# Altium integrated library TI Data Converters Analog to Digital Converter.IntLib: 2198 symbols (part 39 of 164)
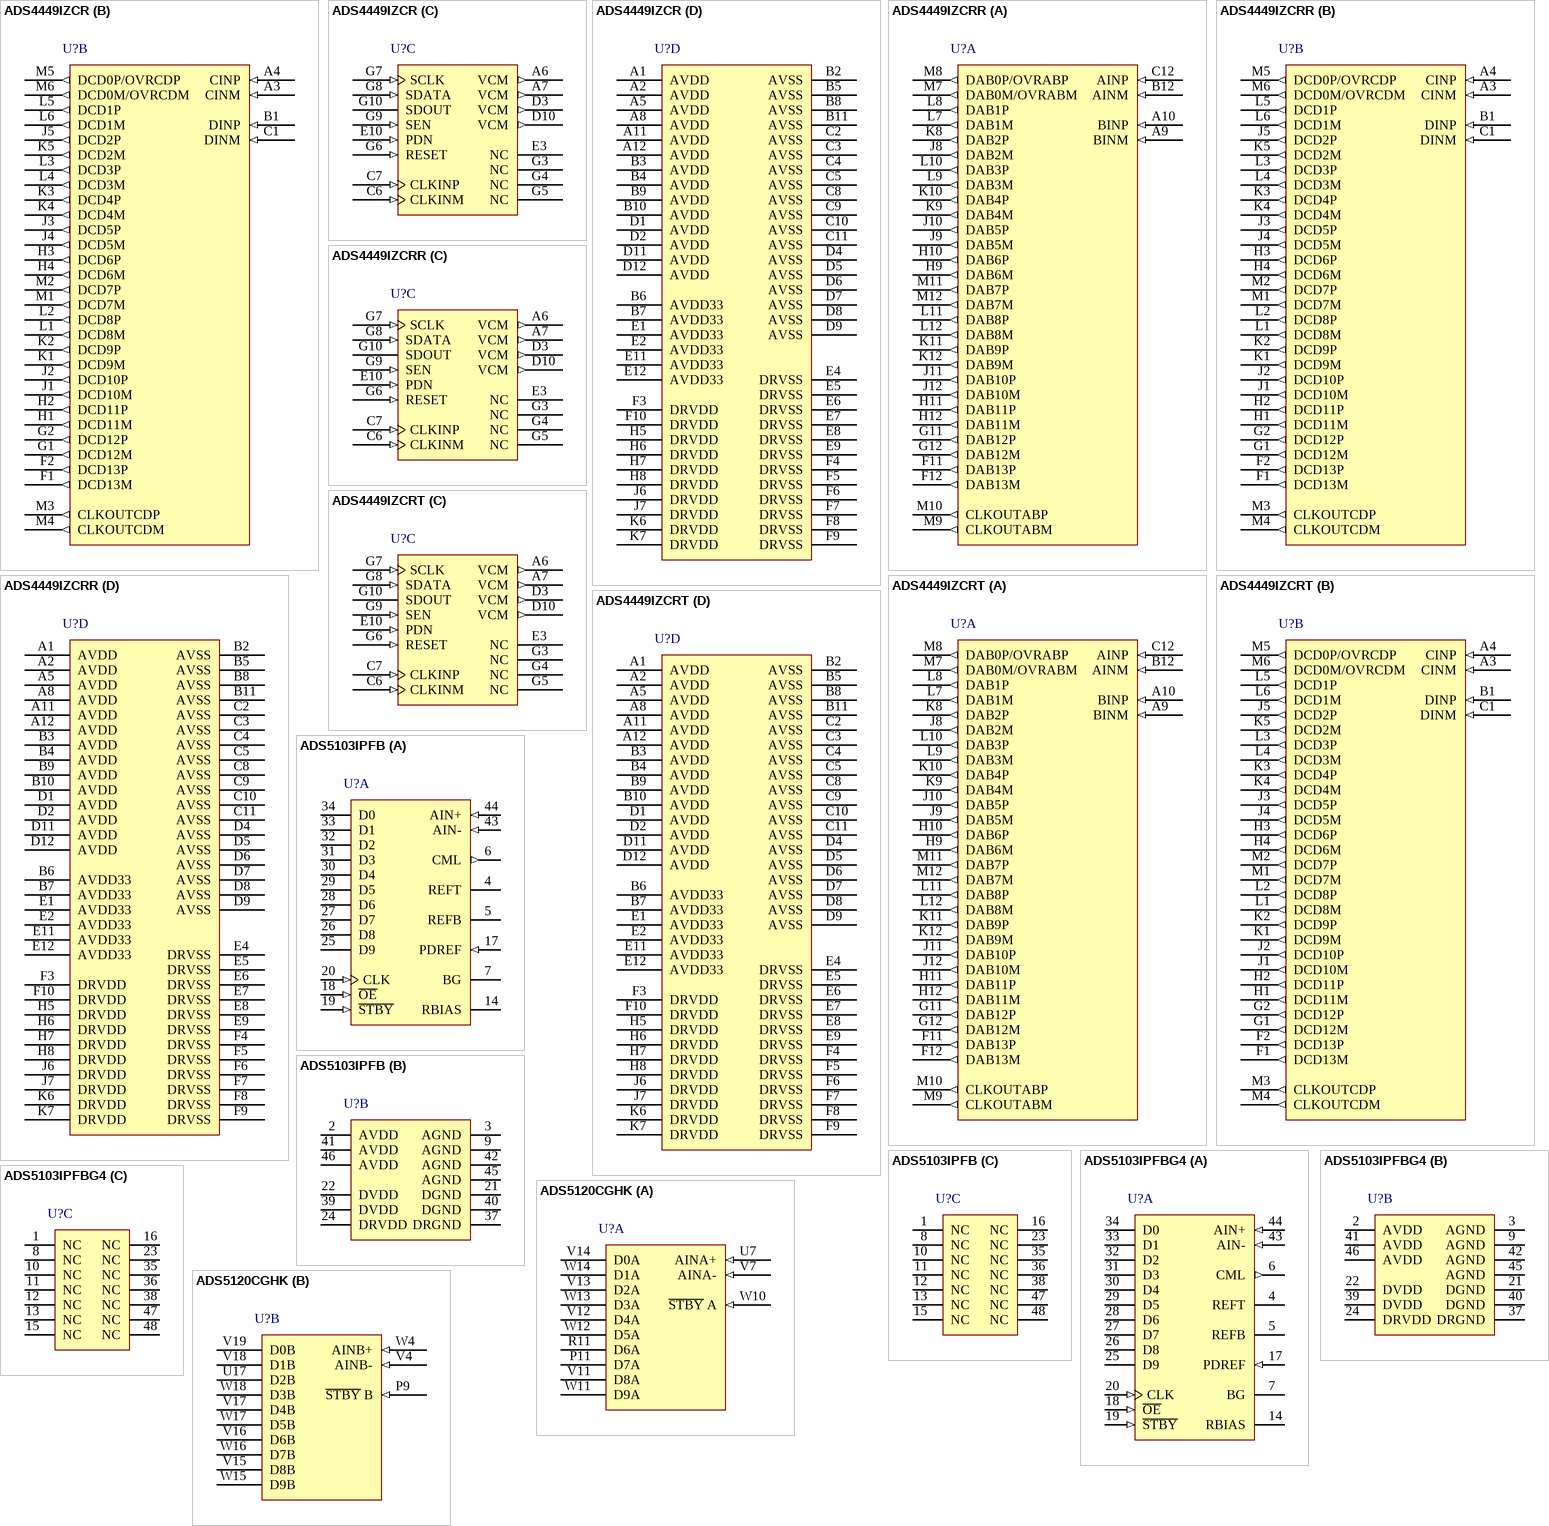
[diagram p164: symbols ADS4449IZCR to ADS5120CGHK]

## ADS4449IZCRR
designator U?
Quad-Channel, 14-Bit, 250-MSPS Low-Power ADC, -40 to 85 degC, 144-pin BGA (ZCR), Green (RoHS & no Sb/Br); Manufacturer: Texas Instruments; PartNumber: ADS4449IZCRR; # Input Channels: 4; Analog Voltage AV/DD(Max)(V): 3.45; Analog Voltage AV/DD(Min)(V): 3.15; Architecture: Pipeline; Digital Supply(Max)(V): 2; Digital Supply(Min)(V): 1.7; INL(Max)(+/-LSB): 5.25; Interface: DDR LVDS; Resolution(Bits): 14; Sample Rate(max)(SPS): 250M; SFDR(dB): 84; SINAD(dB): 70.9; SNR(dB): 71.1; SubFamily: High Speed ADC (>10MSPS); DatasheetVersion: SBAS603; PackageVersion: 4210272-3/C, 11/2011; PackageReference: ZCR144; PackageDescription: 144-Pin Plastic Ball Grid Array, Body 10 x 10 mm, Pitch 0.8 mm; Supplier 1: Digi-Key; Supplier Part Number 1: ADS8380IRHPTG4-ND; Mounting Technology: Surface Mount; Code_JEDEC: MO-219F; ComponentLink1Description: Manufacturer URL; ComponentLink1URL: http://www.ti.com/; ComponentLink2Description: Datasheet; ComponentLink2URL: http://www.ti.com/lit/ds/symlink/ads4449.pdf; ComponentLink3Description: Package Specification; ComponentLink3URL: http://www.ti.com/litv/pdf/mpbga77
footprint TI-ZCR144 (BGA, 144-Balls, Body 10x10mm, Pitch 0.8mm)
part A pins: A9 BINM (in) "Negative differential analog input for channel B", A10 BINP (in) "Positive differential analog input for channel B", B12 AINM (in) "Negative differential analog input for channel A", C12 AINP (in) "Positive differential analog input for channel A", F11 DAB13P (out) "DDR LVDS outputs for channels A and B.", F12 DAB13M (out) "DDR LVDS outputs for channels A and B.", G11 DAB12P (out) "DDR LVDS outputs for channels A and B.", G12 DAB12M (out) "DDR LVDS outputs for channels A and B.", H9 DAB6M (out) "DDR LVDS outputs for channels A and B.", H10 DAB6P (out) "DDR LVDS outputs for channels A and B.", H11 DAB11P (out) "DDR LVDS outputs for channels A and B.", H12 DAB11M (out) "DDR LVDS outputs for channels A and B.", J8 DAB2M (out) "DDR LVDS outputs for channels A and B.", J9 DAB5M (out) "DDR LVDS outputs for channels A and B.", J10 DAB5P (out) "DDR LVDS outputs for channels A and B.", J11 DAB10P (out) "DDR LVDS outputs for channels A and B.", J12 DAB10M (out) "DDR LVDS outputs for channels A and B.", K8 DAB2P (out) "DDR LVDS outputs for channels A and B.", K9 DAB4M (out) "DDR LVDS outputs for channels A and B.", K10 DAB4P (out) "DDR LVDS outputs for channels A and B.", K11 DAB9P (out) "DDR LVDS outputs for channels A and B.", K12 DAB9M (out) "DDR LVDS outputs for channels A and B.", L7 DAB1M (out) "DDR LVDS outputs for channels A and B.", L8 DAB1P (out) "DDR LVDS outputs for channels A and B.", L9 DAB3M (out) "DDR LVDS outputs for channels A and B.", L10 DAB3P (out) "DDR LVDS outputs for channels A and B.", L11 DAB8P (out) "DDR LVDS outputs for channels A and B.", L12 DAB8M (out) "DDR LVDS outputs for channels A and B.", M7 DAB0M/OVRABM (out) "DDR LVDS outputs for channels A and B.", M8 DAB0P/OVRABP (out) "DDR LVDS outputs for channels A and B.", M9 CLKOUTABM (out) "Negative differential LVDS clock output for channel A and B", M10 CLKOUTABP (out) "Positive differential LVDS clock output for channel A and B", M11 DAB7P (out) "DDR LVDS outputs for channels A and B.", M12 DAB7M (out) "DDR LVDS outputs for channels A and B."
part B pins: A3 CINM (in) "Negative differential analog input for channel C", A4 CINP (in) "Positive differential analog input for channel C", B1 DINP (in) "Positive differential analog input for channel D", C1 DINM (in) "Negative differential analog input for channel D", F1 DCD13M (out) "DDR LVDS outputs for channels C and D.", F2 DCD13P (out) "DDR LVDS outputs for channels C and D.", G1 DCD12M (out) "DDR LVDS outputs for channels C and D.", G2 DCD12P (out) "DDR LVDS outputs for channels C and D.", H1 DCD11M (out) "DDR LVDS outputs for channels C and D.", H2 DCD11P (out) "DDR LVDS outputs for channels C and D.", H3 DCD6P (out) "DDR LVDS outputs for channels C and D.", H4 DCD6M (out) "DDR LVDS outputs for channels C and D.", J1 DCD10M (out) "DDR LVDS outputs for channels C and D.", J2 DCD10P (out) "DDR LVDS outputs for channels C and D.", J3 DCD5P (out) "DDR LVDS outputs for channels C and D.", J4 DCD5M (out) "DDR LVDS outputs for channels C and D.", J5 DCD2P (out) "DDR LVDS outputs for channels C and D.", K1 DCD9M (out) "DDR LVDS outputs for channels C and D.", K2 DCD9P (out) "DDR LVDS outputs for channels C and D.", K3 DCD4P (out) "DDR LVDS outputs for channels C and D.", K4 DCD4M (out) "DDR LVDS outputs for channels C and D.", K5 DCD2M (out) "DDR LVDS outputs for channels C and D.", L1 DCD8M (out) "DDR LVDS outputs for channels C and D.", L2 DCD8P (out) "DDR LVDS outputs for channels C and D.", L3 DCD3P (out) "DDR LVDS outputs for channels C and D.", L4 DCD3M (out) "DDR LVDS outputs for channels C and D.", L5 DCD1P (out) "DDR LVDS outputs for channels C and D.", L6 DCD1M (out) "DDR LVDS outputs for channels C and D.", M1 DCD7M (out) "DDR LVDS outputs for channels C and D.", M2 DCD7P (out) "DDR LVDS outputs for channels C and D.", M3 CLKOUTCDP (out) "Positive differential LVDS clock output for channels C and D", M4 CLKOUTCDM (out) "Negative differential LVDS clock output for channels C and D", M5 DCD0P/OVRCDP (out) "DDR LVDS outputs for channels C and D.", M6 DCD0M/OVRCDM (out) "DDR LVDS outputs for channels C and D."
part C pins: A6 VCM (out) "Common-mode voltage for analog inputs. All VCM pins are internally connected together.", A7 VCM (out) "Common-mode voltage for analog inputs. All VCM pins are internally connected together.", C6 CLKINM (in) "Negative differential clock input", C7 CLKINP (in) "Positive differential clock input", D3 VCM (out) "Common-mode voltage for analog inputs. All VCM pins are internally connected together.", D10 VCM (out) "Common-mode voltage for analog inputs. All VCM pins are internally connected together.", E3 NC "Do not connect", E10 PDN (in) "Power-down control; active high. Logic high is power down.", G3 NC "Do not connect", G4 NC "Do not connect", G5 NC "Do not connect", G6 RESET (in) "Hardware reset; active high", G7 SCLK (in) "Serial interface clock input", G8 SDATA (in) "Serial interface data input", G9 SEN (in) "Serial interface enable", G10 SDOUT (hiz) "Serial interface data output"
part D pins: A1 AVDD (power) "Analog 1.9-V power supply", A2 AVDD (power) "Analog 1.9-V power supply", A5 AVDD (power) "Analog 1.9-V power supply", A8 AVDD (power) "Analog 1.9-V power supply", A11 AVDD (power) "Analog 1.9-V power supply", A12 AVDD (power) "Analog 1.9-V power supply", B2 AVSS (power) "Analog ground", B3 AVDD (power) "Analog 1.9-V power supply", B4 AVDD (power) "Analog 1.9-V power supply", B5 AVSS (power) "Analog ground", B6 AVDD33 (power) "Analog 3.3-V power supply", B7 AVDD33 (power) "Analog 3.3-V power supply", B8 AVSS (power) "Analog ground", B9 AVDD (power) "Analog 1.9-V power supply", B10 AVDD (power) "Analog 1.9-V power supply", B11 AVSS (power) "Analog ground", C2 AVSS (power) "Analog ground", C3 AVSS (power) "Analog ground", C4 AVSS (power) "Analog ground", C5 AVSS (power) "Analog ground", C8 AVSS (power) "Analog ground", C9 AVSS (power) "Analog ground", C10 AVSS (power) "Analog ground", C11 AVSS (power) "Analog ground", D1 AVDD (power) "Analog 1.9-V power supply", D2 AVDD (power) "Analog 1.9-V power supply", D4 AVSS (power) "Analog ground", D5 AVSS (power) "Analog ground", D6 AVSS (power) "Analog ground", D7 AVSS (power) "Analog ground", D8 AVSS (power) "Analog ground", D9 AVSS (power) "Analog ground", D11 AVDD (power) "Analog 1.9-V power supply", D12 AVDD (power) "Analog 1.9-V power supply", E1 AVDD33 (power) "Analog 3.3-V power supply", E2 AVDD33 (power) "Analog 3.3-V power supply", E4 DRVSS (power) "Digital ground", E5 DRVSS (power) "Digital ground", E6 DRVSS (power) "Digital ground", E7 DRVSS (power) "Digital ground", E8 DRVSS (power) "Digital ground", E9 DRVSS (power) "Digital ground", E11 AVDD33 (power) "Analog 3.3-V power supply", E12 AVDD33 (power) "Analog 3.3-V power supply", F3 DRVDD (power) "Digital 1.8-V power supply", F4 DRVSS (power) "Digital ground", F5 DRVSS (power) "Digital ground", F6 DRVSS (power) "Digital ground", F7 DRVSS (power) "Digital ground", F8 DRVSS (power) "Digital ground", F9 DRVSS (power) "Digital ground", F10 DRVDD (power) "Digital 1.8-V power supply", H5 DRVDD (power) "Digital 1.8-V power supply", H6 DRVDD (power) "Digital 1.8-V power supply", H7 DRVDD (power) "Digital 1.8-V power supply", H8 DRVDD (power) "Digital 1.8-V power supply", J6 DRVDD (power) "Digital 1.8-V power supply", J7 DRVDD (power) "Digital 1.8-V power supply", K6 DRVDD (power) "Digital 1.8-V power supply", K7 DRVDD (power) "Digital 1.8-V power supply"

## ADS4449IZCRT
designator U?
Quad-Channel, 14-Bit, 250-MSPS Low-Power ADC, -40 to 85 degC, 144-pin BGA (ZCR); Manufacturer: Texas Instruments; PartNumber: ADS4449IZCRT; # Input Channels: 4; Analog Voltage AV/DD(Max)(V): 3.45; Analog Voltage AV/DD(Min)(V): 3.15; Architecture: Pipeline; Digital Supply(Max)(V): 2; Digital Supply(Min)(V): 1.7; INL(Max)(+/-LSB): 5.25; Interface: DDR LVDS; Resolution(Bits): 14; Sample Rate(max)(SPS): 250M; SFDR(dB): 84; SINAD(dB): 70.9; SNR(dB): 71.1; SubFamily: High Speed ADC (>10MSPS); DatasheetVersion: SBAS603; PackageVersion: 4210272-3/C, 11/2011; PackageReference: ZCR144; PackageDescription: 144-Pin Plastic Ball Grid Array, Body 10 x 10 mm, Pitch 0.8 mm; Supplier 1: Digi-Key; Supplier Part Number 1: ADS8382IBRHPR-ND; Mounting Technology: Surface Mount; Code_JEDEC: MO-219F; ComponentLink1Description: Manufacturer URL; ComponentLink1URL: http://www.ti.com/; ComponentLink2Description: Datasheet; ComponentLink2URL: http://www.ti.com/lit/ds/symlink/ads4449.pdf; ComponentLink3Description: Package Specification; ComponentLink3URL: http://www.ti.com/litv/pdf/mpbga77
footprint TI-ZCR144 (BGA, 144-Balls, Body 10x10mm, Pitch 0.8mm)
part A pins: A9 BINM (in) "Negative differential analog input for channel B", A10 BINP (in) "Positive differential analog input for channel B", B12 AINM (in) "Negative differential analog input for channel A", C12 AINP (in) "Positive differential analog input for channel A", F11 DAB13P (out) "DDR LVDS outputs for channels A and B.", F12 DAB13M (out) "DDR LVDS outputs for channels A and B.", G11 DAB12P (out) "DDR LVDS outputs for channels A and B.", G12 DAB12M (out) "DDR LVDS outputs for channels A and B.", H9 DAB6M (out) "DDR LVDS outputs for channels A and B.", H10 DAB6P (out) "DDR LVDS outputs for channels A and B.", H11 DAB11P (out) "DDR LVDS outputs for channels A and B.", H12 DAB11M (out) "DDR LVDS outputs for channels A and B.", J8 DAB2M (out) "DDR LVDS outputs for channels A and B.", J9 DAB5M (out) "DDR LVDS outputs for channels A and B.", J10 DAB5P (out) "DDR LVDS outputs for channels A and B.", J11 DAB10P (out) "DDR LVDS outputs for channels A and B.", J12 DAB10M (out) "DDR LVDS outputs for channels A and B.", K8 DAB2P (out) "DDR LVDS outputs for channels A and B.", K9 DAB4M (out) "DDR LVDS outputs for channels A and B.", K10 DAB4P (out) "DDR LVDS outputs for channels A and B.", K11 DAB9P (out) "DDR LVDS outputs for channels A and B.", K12 DAB9M (out) "DDR LVDS outputs for channels A and B.", L7 DAB1M (out) "DDR LVDS outputs for channels A and B.", L8 DAB1P (out) "DDR LVDS outputs for channels A and B.", L9 DAB3M (out) "DDR LVDS outputs for channels A and B.", L10 DAB3P (out) "DDR LVDS outputs for channels A and B.", L11 DAB8P (out) "DDR LVDS outputs for channels A and B.", L12 DAB8M (out) "DDR LVDS outputs for channels A and B.", M7 DAB0M/OVRABM (out) "DDR LVDS outputs for channels A and B.", M8 DAB0P/OVRABP (out) "DDR LVDS outputs for channels A and B.", M9 CLKOUTABM (out) "Negative differential LVDS clock output for channel A and B", M10 CLKOUTABP (out) "Positive differential LVDS clock output for channel A and B", M11 DAB7P (out) "DDR LVDS outputs for channels A and B.", M12 DAB7M (out) "DDR LVDS outputs for channels A and B."
part B pins: A3 CINM (in) "Negative differential analog input for channel C", A4 CINP (in) "Positive differential analog input for channel C", B1 DINP (in) "Positive differential analog input for channel D", C1 DINM (in) "Negative differential analog input for channel D", F1 DCD13M (out) "DDR LVDS outputs for channels C and D.", F2 DCD13P (out) "DDR LVDS outputs for channels C and D.", G1 DCD12M (out) "DDR LVDS outputs for channels C and D.", G2 DCD12P (out) "DDR LVDS outputs for channels C and D.", H1 DCD11M (out) "DDR LVDS outputs for channels C and D.", H2 DCD11P (out) "DDR LVDS outputs for channels C and D.", H3 DCD6P (out) "DDR LVDS outputs for channels C and D.", H4 DCD6M (out) "DDR LVDS outputs for channels C and D.", J1 DCD10M (out) "DDR LVDS outputs for channels C and D.", J2 DCD10P (out) "DDR LVDS outputs for channels C and D.", J3 DCD5P (out) "DDR LVDS outputs for channels C and D.", J4 DCD5M (out) "DDR LVDS outputs for channels C and D.", J5 DCD2P (out) "DDR LVDS outputs for channels C and D.", K1 DCD9M (out) "DDR LVDS outputs for channels C and D.", K2 DCD9P (out) "DDR LVDS outputs for channels C and D.", K3 DCD4P (out) "DDR LVDS outputs for channels C and D.", K4 DCD4M (out) "DDR LVDS outputs for channels C and D.", K5 DCD2M (out) "DDR LVDS outputs for channels C and D.", L1 DCD8M (out) "DDR LVDS outputs for channels C and D.", L2 DCD8P (out) "DDR LVDS outputs for channels C and D.", L3 DCD3P (out) "DDR LVDS outputs for channels C and D.", L4 DCD3M (out) "DDR LVDS outputs for channels C and D.", L5 DCD1P (out) "DDR LVDS outputs for channels C and D.", L6 DCD1M (out) "DDR LVDS outputs for channels C and D.", M1 DCD7M (out) "DDR LVDS outputs for channels C and D.", M2 DCD7P (out) "DDR LVDS outputs for channels C and D.", M3 CLKOUTCDP (out) "Positive differential LVDS clock output for channels C and D", M4 CLKOUTCDM (out) "Negative differential LVDS clock output for channels C and D", M5 DCD0P/OVRCDP (out) "DDR LVDS outputs for channels C and D.", M6 DCD0M/OVRCDM (out) "DDR LVDS outputs for channels C and D."
part C pins: A6 VCM (out) "Common-mode voltage for analog inputs. All VCM pins are internally connected together.", A7 VCM (out) "Common-mode voltage for analog inputs. All VCM pins are internally connected together.", C6 CLKINM (in) "Negative differential clock input", C7 CLKINP (in) "Positive differential clock input", D3 VCM (out) "Common-mode voltage for analog inputs. All VCM pins are internally connected together.", D10 VCM (out) "Common-mode voltage for analog inputs. All VCM pins are internally connected together.", E3 NC "Do not connect", E10 PDN (in) "Power-down control; active high. Logic high is power down.", G3 NC "Do not connect", G4 NC "Do not connect", G5 NC "Do not connect", G6 RESET (in) "Hardware reset; active high", G7 SCLK (in) "Serial interface clock input", G8 SDATA (in) "Serial interface data input", G9 SEN (in) "Serial interface enable", G10 SDOUT (hiz) "Serial interface data output"
part D pins: A1 AVDD (power) "Analog 1.9-V power supply", A2 AVDD (power) "Analog 1.9-V power supply", A5 AVDD (power) "Analog 1.9-V power supply", A8 AVDD (power) "Analog 1.9-V power supply", A11 AVDD (power) "Analog 1.9-V power supply", A12 AVDD (power) "Analog 1.9-V power supply", B2 AVSS (power) "Analog ground", B3 AVDD (power) "Analog 1.9-V power supply", B4 AVDD (power) "Analog 1.9-V power supply", B5 AVSS (power) "Analog ground", B6 AVDD33 (power) "Analog 3.3-V power supply", B7 AVDD33 (power) "Analog 3.3-V power supply", B8 AVSS (power) "Analog ground", B9 AVDD (power) "Analog 1.9-V power supply", B10 AVDD (power) "Analog 1.9-V power supply", B11 AVSS (power) "Analog ground", C2 AVSS (power) "Analog ground", C3 AVSS (power) "Analog ground", C4 AVSS (power) "Analog ground", C5 AVSS (power) "Analog ground", C8 AVSS (power) "Analog ground", C9 AVSS (power) "Analog ground", C10 AVSS (power) "Analog ground", C11 AVSS (power) "Analog ground", D1 AVDD (power) "Analog 1.9-V power supply", D2 AVDD (power) "Analog 1.9-V power supply", D4 AVSS (power) "Analog ground", D5 AVSS (power) "Analog ground", D6 AVSS (power) "Analog ground", D7 AVSS (power) "Analog ground", D8 AVSS (power) "Analog ground", D9 AVSS (power) "Analog ground", D11 AVDD (power) "Analog 1.9-V power supply", D12 AVDD (power) "Analog 1.9-V power supply", E1 AVDD33 (power) "Analog 3.3-V power supply", E2 AVDD33 (power) "Analog 3.3-V power supply", E4 DRVSS (power) "Digital ground", E5 DRVSS (power) "Digital ground", E6 DRVSS (power) "Digital ground", E7 DRVSS (power) "Digital ground", E8 DRVSS (power) "Digital ground", E9 DRVSS (power) "Digital ground", E11 AVDD33 (power) "Analog 3.3-V power supply", E12 AVDD33 (power) "Analog 3.3-V power supply", F3 DRVDD (power) "Digital 1.8-V power supply", F4 DRVSS (power) "Digital ground", F5 DRVSS (power) "Digital ground", F6 DRVSS (power) "Digital ground", F7 DRVSS (power) "Digital ground", F8 DRVSS (power) "Digital ground", F9 DRVSS (power) "Digital ground", F10 DRVDD (power) "Digital 1.8-V power supply", H5 DRVDD (power) "Digital 1.8-V power supply", H6 DRVDD (power) "Digital 1.8-V power supply", H7 DRVDD (power) "Digital 1.8-V power supply", H8 DRVDD (power) "Digital 1.8-V power supply", J6 DRVDD (power) "Digital 1.8-V power supply", J7 DRVDD (power) "Digital 1.8-V power supply", K6 DRVDD (power) "Digital 1.8-V power supply", K7 DRVDD (power) "Digital 1.8-V power supply"

## ADS5103IPFB
designator U?
10-Bit, 40 MSPS ADC, 1.8 V, Int / Ext Ref, with Power-Down, -40 to 85 degC, 48-pin QFP (PFB48), Green (RoHS & no Sb/Br); Manufacturer: Texas Instruments; PartNumber: ADS5103IPFB; # Input Channels: 1; Analog Voltage AV/DD(Max)(V): 2; Analog Voltage AV/DD(Min)(V): 1.65; Architecture: Pipeline; ENOB(Bits): 9.3; INL(Max)(+/-LSB): 1.5; Interface: Parallel CMOS, Serial SPI Interface; Resolution(Bits): 10; Sample Rate (max)(SPS): 40M; SFDR(dB): 69; SINAD(dB): 58; SNR(dB): 59; SubFamily: High Speed ADC (>10MSPS); DatasheetVersion: SLAS351B; PackageVersion: 4073176/B, 10/1996; PackageReference: PFB48; PackageDescription: 48-Pin Plastic Flat Pack, Body 7 x 7 mm, Pitch 0.5 mm; Supplier 1: Digi-Key; Supplier Part Number 1: ADS8382IBRHPRG4-ND; Digital Supply(Max)(V): 2; Digital Supply(Min)(V): 1.65; Eco-Plan: Green (RoHS & no Sb/Br); Mounting Technology: Surface Mount; Code_JEDEC: MS-026; ComponentLink1Description: Manufacturer URL; ComponentLink1URL: http://www.ti.com/; ComponentLink2Description: Datasheet; ComponentLink2URL: http://www.ti.com/general/docs/lit/getliterature.tsp?genericPartNumber=ADS5103&fileType=pdf; ComponentLink3Description: Package Specification; ComponentLink3URL: http://www.ti.com/lit/ml/mtqf019a/mtqf019a.pdf
footprint TI-PFB48_N (QFP, 48-Leads, Body 7x7mm, Pitch 0.5mm, IPC Medium Density)
footprint TI-PFB48_L (QFP, 48-Leads, Body 7x7mm, Pitch 0.5mm, IPC High Density)
footprint TI-PFB48_M (QFP, 48-Leads, Body 7x7mm, Pitch 0.5mm, IPC Low Density)
part A pins: 4 REFT "Reference top", 5 REFB "Reference bottom", 6 CML (out) "Common mode level output-nominally 1.0 V", 7 BG "Band-gap decoupling-decouple with 1 uF to GND and 100 kohm to AVDD (refer to Figure 30)", 14 RBIAS "Connect a resistor between this pin and AGND. This resistor value is determined by speed grade selected and is used to set amplifier internal bias currents. (see Table 2)", 17 PDREF (in) "Powerdown reference when using external voltage reference 0 = internal VREF, 1 = external VREF. In external VREF mode, connect pins BG and REFT together.", 18 ~{OE} (in) "1 = 3-state the data outputs , 0 = data bus enable", 19 ~{STBY} (in) "0 = power down mode, 1 = normal operation mode", 20 CLK (in) "Clock Input", 25 D9 (hiz) "Digital Bit 9 (MSB)", 26 D8 (hiz) "Digital Bit 8", 27 D7 (hiz) "Digital Bit 7", 28 D6 (hiz) "Digital Bit 6", 29 D5 (hiz) "Digital Bit 5", 30 D4 (hiz) "Digital Bit 4", 31 D3 (hiz) "Digital Bit 3", 32 D2 (hiz) "Digital Bit 2", 33 D1 (hiz) "Digital Bit 1", 34 D0 (hiz) "Digital Bit 0 (LSB)", 43 AIN- (in) "Negative analog input", 44 AIN+ (in) "Positive analog input"
part B pins: 2 AVDD (power) "Analog supply, 1.8V +/-5%", 3 AGND (power) "Analog ground", 9 AGND (power) "Analog ground", 21 DGND (power) "Digital ground", 22 DVDD (power) "Digital supply-1.8 V nominally", 24 DRVDD (power) "Driver digital supply-1.8 V or 3.3 V nominally", 37 DRGND (power) "Driver digital ground", 39 DVDD (power) "Digital supply-1.8 V nominally", 40 DGND (power) "Digital ground", 41 AVDD (power) "Analog supply, 1.8V +/-5%", 42 AGND (power) "Analog ground", 45 AGND (power) "Analog ground", 46 AVDD (power) "Analog supply, 1.8V +/-5%"
part C pins: 1 NC "No internal connection on this pin", 8 NC "No internal connection on this pin", 10 NC "No internal connection on this pin", 11 NC "No internal connection on this pin", 12 NC "No internal connection on this pin", 13 NC "No internal connection on this pin", 15 NC "No internal connection on this pin", 16 NC "No internal connection on this pin", 23 NC "No internal connection on this pin", 35 NC "No internal connection on this pin", 36 NC "No internal connection on this pin", 38 NC "No internal connection on this pin", 47 NC "No internal connection on this pin", 48 NC "No internal connection on this pin"

## ADS5103IPFBG4
designator U?
10-Bit, 40 MSPS ADC, 1.8 V, Int / Ext Ref, with Power-Down, -40 to 85 degC, 48-pin QFP (PFB48), Green (RoHS & no Sb/Br); Manufacturer: Texas Instruments; PartNumber: ADS5103IPFBG4; # Input Channels: 1; Analog Voltage AV/DD(Max)(V): 2; Analog Voltage AV/DD(Min)(V): 1.65; Architecture: Pipeline; ENOB(Bits): 9.3; INL(Max)(+/-LSB): 1.5; Interface: Parallel CMOS, Serial SPI Interface; Resolution(Bits): 10; Sample Rate (max)(SPS): 40M; SFDR(dB): 69; SINAD(dB): 58; SNR(dB): 59; SubFamily: High Speed ADC (>10MSPS); DatasheetVersion: SLAS351B; PackageVersion: 4073176/B, 10/1996; PackageReference: PFB48; PackageDescription: 48-Pin Plastic Flat Pack, Body 7 x 7 mm, Pitch 0.5 mm; Supplier 1: Digi-Key; Supplier Part Number 1: 296-17519-2-ND; Digital Supply(Max)(V): 2; Digital Supply(Min)(V): 1.65; Eco-Plan: Green (RoHS & no Sb/Br); Mounting Technology: Surface Mount; Code_JEDEC: MS-026; ComponentLink1Description: Manufacturer URL; ComponentLink1URL: http://www.ti.com/; ComponentLink2Description: Datasheet; ComponentLink2URL: http://www.ti.com/general/docs/lit/getliterature.tsp?genericPartNumber=ADS5103&fileType=pdf; ComponentLink3Description: Package Specification; ComponentLink3URL: http://www.ti.com/lit/ml/mtqf019a/mtqf019a.pdf
footprint TI-PFB48_N (QFP, 48-Leads, Body 7x7mm, Pitch 0.5mm, IPC Medium Density)
footprint TI-PFB48_L (QFP, 48-Leads, Body 7x7mm, Pitch 0.5mm, IPC High Density)
footprint TI-PFB48_M (QFP, 48-Leads, Body 7x7mm, Pitch 0.5mm, IPC Low Density)
part A pins: 4 REFT "Reference top", 5 REFB "Reference bottom", 6 CML (out) "Common mode level output-nominally 1.0 V", 7 BG "Band-gap decoupling-decouple with 1 uF to GND and 100 kohm to AVDD (refer to Figure 30)", 14 RBIAS "Connect a resistor between this pin and AGND. This resistor value is determined by speed grade selected and is used to set amplifier internal bias currents. (see Table 2)", 17 PDREF (in) "Powerdown reference when using external voltage reference 0 = internal VREF, 1 = external VREF. In external VREF mode, connect pins BG and REFT together.", 18 ~{OE} (in) "1 = 3-state the data outputs , 0 = data bus enable", 19 ~{STBY} (in) "0 = power down mode, 1 = normal operation mode", 20 CLK (in) "Clock Input", 25 D9 (hiz) "Digital Bit 9 (MSB)", 26 D8 (hiz) "Digital Bit 8", 27 D7 (hiz) "Digital Bit 7", 28 D6 (hiz) "Digital Bit 6", 29 D5 (hiz) "Digital Bit 5", 30 D4 (hiz) "Digital Bit 4", 31 D3 (hiz) "Digital Bit 3", 32 D2 (hiz) "Digital Bit 2", 33 D1 (hiz) "Digital Bit 1", 34 D0 (hiz) "Digital Bit 0 (LSB)", 43 AIN- (in) "Negative analog input", 44 AIN+ (in) "Positive analog input"
part B pins: 2 AVDD (power) "Analog supply, 1.8V +/-5%", 3 AGND (power) "Analog ground", 9 AGND (power) "Analog ground", 21 DGND (power) "Digital ground", 22 DVDD (power) "Digital supply-1.8 V nominally", 24 DRVDD (power) "Driver digital supply-1.8 V or 3.3 V nominally", 37 DRGND (power) "Driver digital ground", 39 DVDD (power) "Digital supply-1.8 V nominally", 40 DGND (power) "Digital ground", 41 AVDD (power) "Analog supply, 1.8V +/-5%", 42 AGND (power) "Analog ground", 45 AGND (power) "Analog ground", 46 AVDD (power) "Analog supply, 1.8V +/-5%"
part C pins: 1 NC "No internal connection on this pin", 8 NC "No internal connection on this pin", 10 NC "No internal connection on this pin", 11 NC "No internal connection on this pin", 12 NC "No internal connection on this pin", 13 NC "No internal connection on this pin", 15 NC "No internal connection on this pin", 16 NC "No internal connection on this pin", 23 NC "No internal connection on this pin", 35 NC "No internal connection on this pin", 36 NC "No internal connection on this pin", 38 NC "No internal connection on this pin", 47 NC "No internal connection on this pin", 48 NC "No internal connection on this pin"

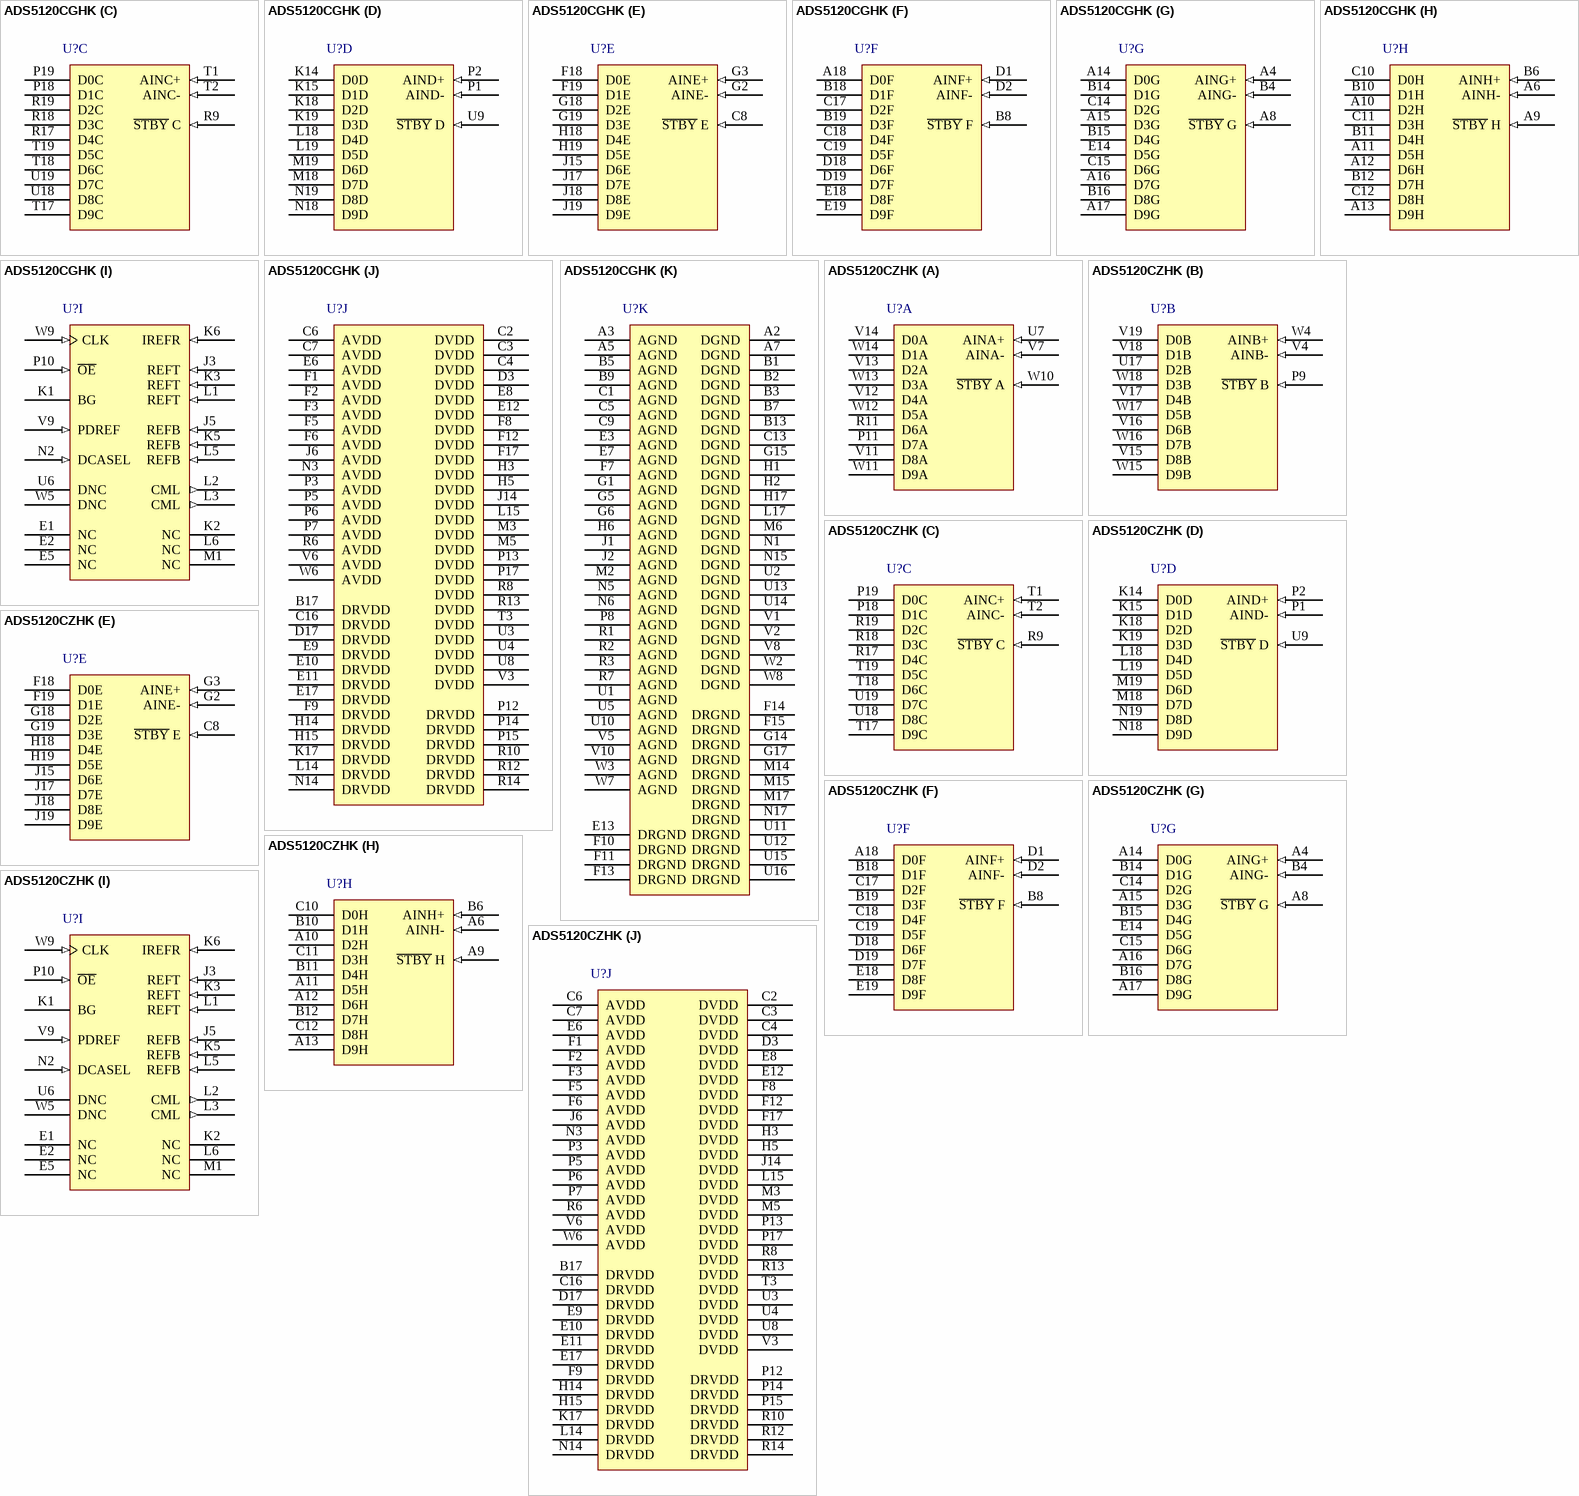
[diagram p36: symbols ADS5120CGHK to ADS5120CZHK]

## ADS5120CGHK
designator U?
8 Channel, 10-Bit, 40 MSPS ADC, 1.8 V, 0 to 70 degC, 257-pin BGA (GHK257); Manufacturer: Texas Instruments; PartNumber: ADS5120CGHK; # Input Channels: 8; Analog Voltage AV/DD(Max)(V): 2; Analog Voltage AV/DD(Min)(V): 1.65; Architecture: Pipeline; ENOB(Bits): 9.2; INL(Max)(+/-LSB): 1.5; Interface: Parallel CMOS, Serial SPI Interface; Resolution(Bits): 10; Sample Rate (max)(SPS): 40M; SFDR(dB): 72; SINAD(dB): 57; SNR(dB): 58; SubFamily: High Speed ADC (>10MSPS); DatasheetVersion: SBAS247E; PackageVersion: 4145273-4/H, 05/2005; PackageReference: GHK257; PackageDescription: 257-Pin Plastic Ball Grid Array, Body 16 x 16 mm, Pitch 0.8 mm; Supplier 1: Digi-Key; Supplier Part Number 1: ADS8382IBRHPTG4-ND; Digital Supply(Max)(V): 2; Digital Supply(Min)(V): 1.65; Mounting Technology: Surface Mount; ComponentLink1Description: Manufacturer URL; ComponentLink1URL: http://www.ti.com/; ComponentLink2Description: Datasheet; ComponentLink2URL: http://www.ti.com/general/docs/lit/getliterature.tsp?genericPartNumber=ADS5120&fileType=pdf; ComponentLink3Description: Package Specification; ComponentLink3URL: http://www.ti.com/litv/pdf/mpbg090f
footprint TI-GHK257 (BGA, 257-Balls, Body 16x16mm, Pitch 0.8mm)
part A pins: P11 D7A (hiz) "Bit 8, Channel A", R11 D6A (hiz) "Bit 7, Channel A", U7 AINA+ (in) "Analog Input Channel A", V7 AINA- (in) "Complementary Analog Input Channel A", V11 D8A (hiz) "Bit 9, Channel A", V12 D4A (hiz) "Bit 5, Channel A", V13 D2A (hiz) "Bit 3, Channel A", V14 D0A (hiz) "Bit 1, Channel A (LSB)", W10 ~{STBY} A (in) "Power-Down Channel A", W11 D9A (hiz) "Bit 10, Channel A (MSB)", W12 D5A (hiz) "Bit 6, Channel A", W13 D3A (hiz) "Bit 4, Channel A", W14 D1A (hiz) "Bit 2, Channel A"
part B pins: P9 ~{STBY} B (in) "Power-Down Channel B", U17 D2B (hiz) "Bit 3, Channel B", V4 AINB- (in) "Complementary Analog Input Channel B", V15 D8B (hiz) "Bit 9, Channel B", V16 D6B (hiz) "Bit 7, Channel B", V17 D4B (hiz) "Bit 5, Channel B", V18 D1B (hiz) "Bit 2, Channel B", V19 D0B (hiz) "Bit 1, Channel B (LSB)", W4 AINB+ (in) "Analog Input Channel B", W15 D9B (hiz) "Bit 10, Channel B (MSB)", W16 D7B (hiz) "Bit 8, Channel B", W17 D5B (hiz) "Bit 6, Channel B", W18 D3B (hiz) "Bit 4, Channel B"
part C pins: P18 D1C (hiz) "Bit 2, Channel C", P19 D0C (hiz) "Bit 1, Channel C (LSB)", R9 ~{STBY} C (in) "Power-Down Channel C", R17 D4C (hiz) "Bit 5, Channel C", R18 D3C (hiz) "Bit 4, Channel C", R19 D2C (hiz) "Bit 3, Channel C", T1 AINC+ (in) "Analog Input Channel C", T2 AINC- (in) "Complementary Analog Input Channel C", T17 D9C (hiz) "Bit 10, Channel C (MSB)", T18 D6C (hiz) "Bit 7, Channel C", T19 D5C (hiz) "Bit 6, Channel C", U18 D8C (hiz) "Bit 9, Channel C", U19 D7C (hiz) "Bit 8, Channel C"
part D pins: K14 D0D (hiz) "Bit 1, Channel D (LSB)", K15 D1D (hiz) "Bit 2, Channel D", K18 D2D (hiz) "Bit 3, Channel D", K19 D3D (hiz) "Bit 4, Channel D", L18 D4D (hiz) "Bit 5, Channel D", L19 D5D (hiz) "Bit 6, Channel D", M18 D7D (hiz) "Bit 8, Channel D", M19 D6D (hiz) "Bit 7, Channel D", N18 D9D (hiz) "Bit 10, Channel D (MSB)", N19 D8D (hiz) "Bit 9, Channel D", P1 AIND- (in) "Complementary Analog Input Channel D", P2 AIND+ (in) "Analog Input Channel D", U9 ~{STBY} D (in) "Power-Down Channel D"
part E pins: C8 ~{STBY} E (in) "Power-Down Channel E", F18 D0E (hiz) "Bit 1, Channel E (LSB)", F19 D1E (hiz) "Bit 2, Channel E", G2 AINE- (in) "Complementary Analog Input Channel E", G3 AINE+ (in) "Analog Input Channel E", G18 D2E (hiz) "Bit 3, Channel E", G19 D3E (hiz) "Bit 4, Channel E", H18 D4E (hiz) "Bit 5, Channel E", H19 D5E (hiz) "Bit 6, Channel E", J15 D6E (hiz) "Bit 7, Channel E", J17 D7E (hiz) "Bit 8, Channel E", J18 D8E (hiz) "Bit 9, Channel E", J19 D9E (hiz) "Bit 10, Channel E (MSB)"
part F pins: A18 D0F (hiz) "Bit 1, Channel F (LSB)", B8 ~{STBY} F (in) "Power-Down Channel F", B18 D1F (hiz) "Bit 2, Channel F", B19 D3F (hiz) "Bit 4, Channel F", C17 D2F (hiz) "Bit 3, Channel F", C18 D4F (hiz) "Bit 5, Channel F", C19 D5F (hiz) "Bit 6, Channel F", D1 AINF+ (in) "Analog Input Channel F", D2 AINF- (in) "Complementary Analog Input Channel F", D18 D6F (hiz) "Bit 7, Channel F", D19 D7F (hiz) "Bit 8, Channel F", E18 D8F (hiz) "Bit 9, Channel F", E19 D9F (hiz) "Bit 10, Channel F (MSB)"
part G pins: A4 AING+ (in) "Analog Input Channel G", A8 ~{STBY} G (in) "Power-Down Channel G", A14 D0G (hiz) "Bit 1, Channel G (LSB)", A15 D3G (hiz) "Bit 4, Channel G", A16 D7G (hiz) "Bit 8, Channel G", A17 D9G (hiz) "Bit 10, Channel G (MSB)", B4 AING- (in) "Complementary Analog Input Channel G", B14 D1G (hiz) "Bit 2, Channel G", B15 D4G (hiz) "Bit 5, Channel G", B16 D8G (hiz) "Bit 9, Channel G", C14 D2G (hiz) "Bit 3, Channel G", C15 D6G (hiz) "Bit 7, Channel G", E14 D5G (hiz) "Bit 6, Channel G"
part H pins: A6 AINH- (in) "Complementary Analog Input Channel H", A9 ~{STBY} H (in) "Power-Down Channel H", A10 D2H (hiz) "Bit 3, Channel H", A11 D5H (hiz) "Bit 6, Channel H", A12 D6H (hiz) "Bit 7, Channel H", A13 D9H (hiz) "Bit 10, Channel H (MSB)", B6 AINH+ (in) "Analog Input Channel H", B10 D1H (hiz) "Bit 2, Channel H", B11 D4H (hiz) "Bit 5, Channel H", B12 D7H (hiz) "Bit 8, Channel H", C10 D0H (hiz) "Bit 1, Channel H (LSB)", C11 D3H (hiz) "Bit 4, Channel H", C12 D8H (hiz) "Bit 9, Channel H"
part I pins: E1 NC "No Internal Connection", E2 NC "No Internal Connection", E5 NC "No Internal Connection", J3 REFT (in) "Reference Top", J5 REFB (in) "Reference Bottom", K1 BG "Bandgap Decoupling (Decouple with 1uF cap to AGND and 100kohm to AVDD)", K2 NC "No Internal Connection", K3 REFT (in) "Reference Top", K5 REFB (in) "Reference Bottom", K6 IREFR (in) "Internal Reference Bias Current (Connect 6.19kohm resistor from this pin AGND to set internal bias amplifier current.)", L1 REFT (in) "Reference Top", L2 CML (out) "Common-Mode Level Output", L3 CML (out) "Common-Mode Level Output", L5 REFB (in) "Reference Bottom", L6 NC "No Internal Connection", M1 NC "No Internal Connection", N2 DCASEL (in) "Duty Cycle Adjust", P10 ~{OE} (in) "Enable all Digital Outputs, Ch A-H. O\E\: 0 = Outputs Enable. O\E\: 1 = Outputs disabled (3-State).", U6 DNC "No Internal Connection", V9 PDREF (in) "Power-Down Ref: 0 = internal reference, 1 = external reference. In external reference mode connect REFT to BG pin.", W5 DNC "No Internal Connection", W9 CLK (in) "Clock Input"
part J pins: B17 DRVDD (power) "Driver Digital Supply (1.8V or 3.3V)", C2 DVDD (power) "Digital Supply (1.8V)", C3 DVDD (power) "Digital Supply (1.8V)", C4 DVDD (power) "Digital Supply (1.8V)", C6 AVDD (power) "Analog Supply, (1.8V)", C7 AVDD (power) "Analog Supply, (1.8V)", C16 DRVDD (power) "Driver Digital Supply (1.8V or 3.3V)", D3 DVDD (power) "Digital Supply (1.8V)", D17 DRVDD (power) "Driver Digital Supply (1.8V or 3.3V)", E6 AVDD (power) "Analog Supply, (1.8V)", E8 DVDD (power) "Digital Supply (1.8V)", E9 DRVDD (power) "Driver Digital Supply (1.8V or 3.3V)", E10 DRVDD (power) "Driver Digital Supply (1.8V or 3.3V)", E11 DRVDD (power) "Driver Digital Supply (1.8V or 3.3V)", E12 DVDD (power) "Digital Supply (1.8V)", E17 DRVDD (power) "Driver Digital Supply (1.8V or 3.3V)", F1 AVDD (power) "Analog Supply, (1.8V)", F2 AVDD (power) "Analog Supply, (1.8V)", F3 AVDD (power) "Analog Supply, (1.8V)", F5 AVDD (power) "Analog Supply, (1.8V)", F6 AVDD (power) "Analog Supply, (1.8V)", F8 DVDD (power) "Digital Supply (1.8V)", F9 DRVDD (power) "Driver Digital Supply (1.8V or 3.3V)", F12 DVDD (power) "Digital Supply (1.8V)", F17 DVDD (power) "Digital Supply (1.8V)", H3 DVDD (power) "Digital Supply (1.8V)", H5 DVDD (power) "Digital Supply (1.8V)", H14 DRVDD (power) "Driver Digital Supply (1.8V or 3.3V)", H15 DRVDD (power) "Driver Digital Supply (1.8V or 3.3V)", J6 AVDD (power) "Analog Supply, (1.8V)", J14 DVDD (power) "Digital Supply (1.8V)", K17 DRVDD (power) "Driver Digital Supply (1.8V or 3.3V)", L14 DRVDD (power) "Driver Digital Supply (1.8V or 3.3V)", L15 DVDD (power) "Digital Supply (1.8V)", M3 DVDD (power) "Digital Supply (1.8V)", M5 DVDD (power) "Digital Supply (1.8V)", N3 AVDD (power) "Analog Supply, (1.8V)", N14 DRVDD (power) "Driver Digital Supply (1.8V or 3.3V)", P3 AVDD (power) "Analog Supply, (1.8V)", P5 AVDD (power) "Analog Supply, (1.8V)", P6 AVDD (power) "Analog Supply, (1.8V)", P7 AVDD (power) "Analog Supply, (1.8V)", P12 DRVDD (power) "Driver Digital Supply (1.8V or 3.3V)", P13 DVDD (power) "Digital Supply (1.8V)", P14 DRVDD (power) "Driver Digital Supply (1.8V or 3.3V)", P15 DRVDD (power) "Driver Digital Supply (1.8V or 3.3V)", P17 DVDD (power) "Digital Supply (1.8V)", R6 AVDD (power) "Analog Supply, (1.8V)", R8 DVDD (power) "Digital Supply (1.8V)", R10 DRVDD (power) "Driver Digital Supply (1.8V or 3.3V)", R12 DRVDD (power) "Driver Digital Supply (1.8V or 3.3V)", R13 DVDD (power) "Digital Supply (1.8V)", R14 DRVDD (power) "Driver Digital Supply (1.8V or 3.3V)", T3 DVDD (power) "Digital Supply (1.8V)", U3 DVDD (power) "Digital Supply (1.8V)", U4 DVDD (power) "Digital Supply (1.8V)", U8 DVDD (power) "Digital Supply (1.8V)", V3 DVDD (power) "Digital Supply (1.8V)", V6 AVDD (power) "Analog Supply, (1.8V)", W6 AVDD (power) "Analog Supply, (1.8V)"
part K pins: A2 DGND (power) "Digital Ground", A3 AGND (power) "Analog Ground", A5 AGND (power) "Analog Ground", A7 DGND (power) "Digital Ground", B1 DGND (power) "Digital Ground", B2 DGND (power) "Digital Ground", B3 DGND (power) "Digital Ground", B5 AGND (power) "Analog Ground", B7 DGND (power) "Digital Ground", B9 AGND (power) "Analog Ground", B13 DGND (power) "Digital Ground", C1 AGND (power) "Analog Ground", C5 AGND (power) "Analog Ground", C9 AGND (power) "Analog Ground", C13 DGND (power) "Digital Ground", E3 AGND (power) "Analog Ground", E7 AGND (power) "Analog Ground", E13 DRGND (power) "Driver Digital Ground", F7 AGND (power) "Analog Ground", F10 DRGND (power) "Driver Digital Ground", F11 DRGND (power) "Driver Digital Ground", F13 DRGND (power) "Driver Digital Ground", F14 DRGND (power) "Driver Digital Ground", F15 DRGND (power) "Driver Digital Ground", G1 AGND (power) "Analog Ground", G5 AGND (power) "Analog Ground", G6 AGND (power) "Analog Ground", G14 DRGND (power) "Driver Digital Ground", G15 DGND (power) "Digital Ground", G17 DRGND (power) "Driver Digital Ground", H1 DGND (power) "Digital Ground", H2 DGND (power) "Digital Ground", H6 AGND (power) "Analog Ground", H17 DGND (power) "Digital Ground", J1 AGND (power) "Analog Ground", J2 AGND (power) "Analog Ground", L17 DGND (power) "Digital Ground", M2 AGND (power) "Analog Ground", M6 DGND (power) "Digital Ground", M14 DRGND (power) "Driver Digital Ground", M15 DRGND (power) "Driver Digital Ground", M17 DRGND (power) "Driver Digital Ground", N1 DGND (power) "Digital Ground", N5 AGND (power) "Analog Ground", N6 AGND (power) "Analog Ground", N15 DGND (power) "Digital Ground", N17 DRGND (power) "Driver Digital Ground", P8 AGND (power) "Analog Ground", R1 AGND (power) "Analog Ground", R2 AGND (power) "Analog Ground", R3 AGND (power) "Analog Ground", R7 AGND (power) "Analog Ground", U1 AGND (power) "Analog Ground", U2 DGND (power) "Digital Ground", U5 AGND (power) "Analog Ground", U10 AGND (power) "Analog Ground", U11 DRGND (power) "Driver Digital Ground", U12 DRGND (power) "Driver Digital Ground", U13 DGND (power) "Digital Ground", U14 DGND (power) "Digital Ground", U15 DRGND (power) "Driver Digital Ground", U16 DRGND (power) "Driver Digital Ground", V1 DGND (power) "Digital Ground", V2 DGND (power) "Digital Ground", V5 AGND (power) "Analog Ground", V8 DGND (power) "Digital Ground", V10 AGND (power) "Analog Ground", W2 DGND (power) "Digital Ground", W3 AGND (power) "Analog Ground", W7 AGND (power) "Analog Ground", W8 DGND (power) "Digital Ground"

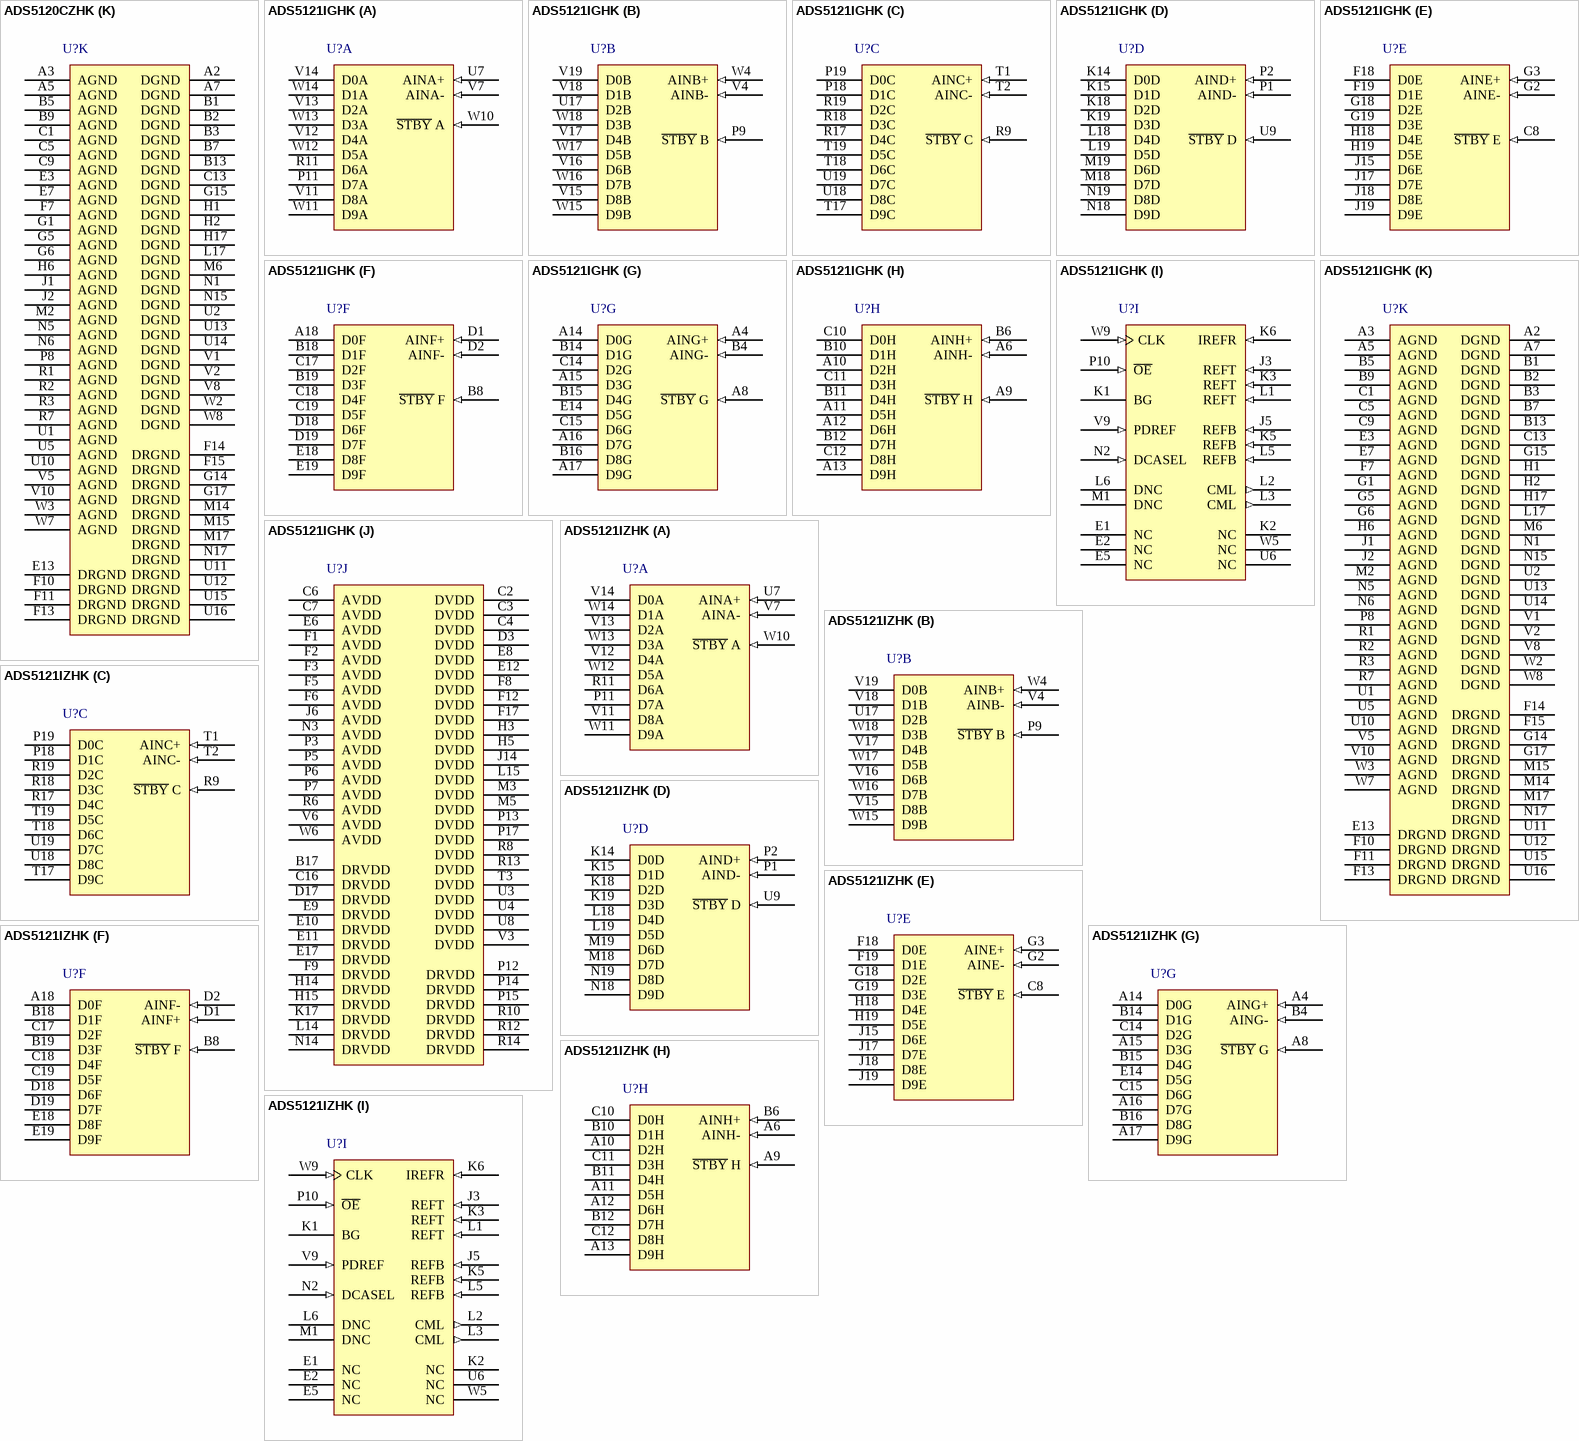
[diagram p37: symbols ADS5120CZHK to ADS5121IZHK]

## ADS5120CZHK
designator U?
8 Channel, 10-Bit, 40 MSPS ADC, 1.8 V, 0 to 70 degC, 257-pin BGA (ZHK257), Green (RoHS & no Sb/Br); Manufacturer: Texas Instruments; PartNumber: ADS5120CZHK; # Input Channels: 8; Analog Voltage AV/DD(Max)(V): 2; Analog Voltage AV/DD(Min)(V): 1.65; Architecture: Pipeline; ENOB(Bits): 9.2; INL(Max)(+/-LSB): 1.5; Interface: Parallel CMOS, Serial SPI Interface; Resolution(Bits): 10; Sample Rate (max)(SPS): 40M; SFDR(dB): 72; SINAD(dB): 57; SNR(dB): 58; SubFamily: High Speed ADC (>10MSPS); DatasheetVersion: SBAS247E; PackageVersion: 4204905-4/F, 02/2006; PackageReference: ZHK257; PackageDescription: 257-Pin Plastic Ball Grid Array, Body 16 x 16 mm, Pitch 0.8 mm; Supplier 1: Digi-Key; Supplier Part Number 1: 296-17520-2-ND; Digital Supply(Max)(V): 2; Digital Supply(Min)(V): 1.65; Eco-Plan: Green (RoHS & no Sb/Br); Mounting Technology: Surface Mount; ComponentLink1Description: Manufacturer URL; ComponentLink1URL: http://www.ti.com/; ComponentLink2Description: Datasheet; ComponentLink2URL: http://www.ti.com/general/docs/lit/getliterature.tsp?genericPartNumber=ADS5120&fileType=pdf; ComponentLink3Description: Package Specification; ComponentLink3URL: http://www.ti.com/litv/pdf/mpbg338e
footprint TI-ZHK257 (BGA, 257-Balls, Body 16x16mm, Pitch 0.8mm)
part A pins: P11 D7A (hiz) "Bit 8, Channel A", R11 D6A (hiz) "Bit 7, Channel A", U7 AINA+ (in) "Analog Input Channel A", V7 AINA- (in) "Complementary Analog Input Channel A", V11 D8A (hiz) "Bit 9, Channel A", V12 D4A (hiz) "Bit 5, Channel A", V13 D2A (hiz) "Bit 3, Channel A", V14 D0A (hiz) "Bit 1, Channel A (LSB)", W10 ~{STBY} A (in) "Power-Down Channel A", W11 D9A (hiz) "Bit 10, Channel A (MSB)", W12 D5A (hiz) "Bit 6, Channel A", W13 D3A (hiz) "Bit 4, Channel A", W14 D1A (hiz) "Bit 2, Channel A"
part B pins: P9 ~{STBY} B (in) "Power-Down Channel B", U17 D2B (hiz) "Bit 3, Channel B", V4 AINB- (in) "Complementary Analog Input Channel B", V15 D8B (hiz) "Bit 9, Channel B", V16 D6B (hiz) "Bit 7, Channel B", V17 D4B (hiz) "Bit 5, Channel B", V18 D1B (hiz) "Bit 2, Channel B", V19 D0B (hiz) "Bit 1, Channel B (LSB)", W4 AINB+ (in) "Analog Input Channel B", W15 D9B (hiz) "Bit 10, Channel B (MSB)", W16 D7B (hiz) "Bit 8, Channel B", W17 D5B (hiz) "Bit 6, Channel B", W18 D3B (hiz) "Bit 4, Channel B"
part C pins: P18 D1C (hiz) "Bit 2, Channel C", P19 D0C (hiz) "Bit 1, Channel C (LSB)", R9 ~{STBY} C (in) "Power-Down Channel C", R17 D4C (hiz) "Bit 5, Channel C", R18 D3C (hiz) "Bit 4, Channel C", R19 D2C (hiz) "Bit 3, Channel C", T1 AINC+ (in) "Analog Input Channel C", T2 AINC- (in) "Complementary Analog Input Channel C", T17 D9C (hiz) "Bit 10, Channel C (MSB)", T18 D6C (hiz) "Bit 7, Channel C", T19 D5C (hiz) "Bit 6, Channel C", U18 D8C (hiz) "Bit 9, Channel C", U19 D7C (hiz) "Bit 8, Channel C"
part D pins: K14 D0D (hiz) "Bit 1, Channel D (LSB)", K15 D1D (hiz) "Bit 2, Channel D", K18 D2D (hiz) "Bit 3, Channel D", K19 D3D (hiz) "Bit 4, Channel D", L18 D4D (hiz) "Bit 5, Channel D", L19 D5D (hiz) "Bit 6, Channel D", M18 D7D (hiz) "Bit 8, Channel D", M19 D6D (hiz) "Bit 7, Channel D", N18 D9D (hiz) "Bit 10, Channel D (MSB)", N19 D8D (hiz) "Bit 9, Channel D", P1 AIND- (in) "Complementary Analog Input Channel D", P2 AIND+ (in) "Analog Input Channel D", U9 ~{STBY} D (in) "Power-Down Channel D"
part E pins: C8 ~{STBY} E (in) "Power-Down Channel E", F18 D0E (hiz) "Bit 1, Channel E (LSB)", F19 D1E (hiz) "Bit 2, Channel E", G2 AINE- (in) "Complementary Analog Input Channel E", G3 AINE+ (in) "Analog Input Channel E", G18 D2E (hiz) "Bit 3, Channel E", G19 D3E (hiz) "Bit 4, Channel E", H18 D4E (hiz) "Bit 5, Channel E", H19 D5E (hiz) "Bit 6, Channel E", J15 D6E (hiz) "Bit 7, Channel E", J17 D7E (hiz) "Bit 8, Channel E", J18 D8E (hiz) "Bit 9, Channel E", J19 D9E (hiz) "Bit 10, Channel E (MSB)"
part F pins: A18 D0F (hiz) "Bit 1, Channel F (LSB)", B8 ~{STBY} F (in) "Power-Down Channel F", B18 D1F (hiz) "Bit 2, Channel F", B19 D3F (hiz) "Bit 4, Channel F", C17 D2F (hiz) "Bit 3, Channel F", C18 D4F (hiz) "Bit 5, Channel F", C19 D5F (hiz) "Bit 6, Channel F", D1 AINF+ (in) "Analog Input Channel F", D2 AINF- (in) "Complementary Analog Input Channel F", D18 D6F (hiz) "Bit 7, Channel F", D19 D7F (hiz) "Bit 8, Channel F", E18 D8F (hiz) "Bit 9, Channel F", E19 D9F (hiz) "Bit 10, Channel F (MSB)"
part G pins: A4 AING+ (in) "Analog Input Channel G", A8 ~{STBY} G (in) "Power-Down Channel G", A14 D0G (hiz) "Bit 1, Channel G (LSB)", A15 D3G (hiz) "Bit 4, Channel G", A16 D7G (hiz) "Bit 8, Channel G", A17 D9G (hiz) "Bit 10, Channel G (MSB)", B4 AING- (in) "Complementary Analog Input Channel G", B14 D1G (hiz) "Bit 2, Channel G", B15 D4G (hiz) "Bit 5, Channel G", B16 D8G (hiz) "Bit 9, Channel G", C14 D2G (hiz) "Bit 3, Channel G", C15 D6G (hiz) "Bit 7, Channel G", E14 D5G (hiz) "Bit 6, Channel G"
part H pins: A6 AINH- (in) "Complementary Analog Input Channel H", A9 ~{STBY} H (in) "Power-Down Channel H", A10 D2H (hiz) "Bit 3, Channel H", A11 D5H (hiz) "Bit 6, Channel H", A12 D6H (hiz) "Bit 7, Channel H", A13 D9H (hiz) "Bit 10, Channel H (MSB)", B6 AINH+ (in) "Analog Input Channel H", B10 D1H (hiz) "Bit 2, Channel H", B11 D4H (hiz) "Bit 5, Channel H", B12 D7H (hiz) "Bit 8, Channel H", C10 D0H (hiz) "Bit 1, Channel H (LSB)", C11 D3H (hiz) "Bit 4, Channel H", C12 D8H (hiz) "Bit 9, Channel H"
part I pins: E1 NC "No Internal Connection", E2 NC "No Internal Connection", E5 NC "No Internal Connection", J3 REFT (in) "Reference Top", J5 REFB (in) "Reference Bottom", K1 BG "Bandgap Decoupling (Decouple with 1uF cap to AGND and 100kohm to AVDD)", K2 NC "No Internal Connection", K3 REFT (in) "Reference Top", K5 REFB (in) "Reference Bottom", K6 IREFR (in) "Internal Reference Bias Current (Connect 6.19kohm resistor from this pin AGND to set internal bias amplifier current.)", L1 REFT (in) "Reference Top", L2 CML (out) "Common-Mode Level Output", L3 CML (out) "Common-Mode Level Output", L5 REFB (in) "Reference Bottom", L6 NC "No Internal Connection", M1 NC "No Internal Connection", N2 DCASEL (in) "Duty Cycle Adjust", P10 ~{OE} (in) "Enable all Digital Outputs, Ch A-H. O\E\: 0 = Outputs Enable. O\E\: 1 = Outputs disabled (3-State).", U6 DNC "No Internal Connection", V9 PDREF (in) "Power-Down Ref: 0 = internal reference, 1 = external reference. In external reference mode connect REFT to BG pin.", W5 DNC "No Internal Connection", W9 CLK (in) "Clock Input"
part J pins: B17 DRVDD (power) "Driver Digital Supply (1.8V or 3.3V)", C2 DVDD (power) "Digital Supply (1.8V)", C3 DVDD (power) "Digital Supply (1.8V)", C4 DVDD (power) "Digital Supply (1.8V)", C6 AVDD (power) "Analog Supply, (1.8V)", C7 AVDD (power) "Analog Supply, (1.8V)", C16 DRVDD (power) "Driver Digital Supply (1.8V or 3.3V)", D3 DVDD (power) "Digital Supply (1.8V)", D17 DRVDD (power) "Driver Digital Supply (1.8V or 3.3V)", E6 AVDD (power) "Analog Supply, (1.8V)", E8 DVDD (power) "Digital Supply (1.8V)", E9 DRVDD (power) "Driver Digital Supply (1.8V or 3.3V)", E10 DRVDD (power) "Driver Digital Supply (1.8V or 3.3V)", E11 DRVDD (power) "Driver Digital Supply (1.8V or 3.3V)", E12 DVDD (power) "Digital Supply (1.8V)", E17 DRVDD (power) "Driver Digital Supply (1.8V or 3.3V)", F1 AVDD (power) "Analog Supply, (1.8V)", F2 AVDD (power) "Analog Supply, (1.8V)", F3 AVDD (power) "Analog Supply, (1.8V)", F5 AVDD (power) "Analog Supply, (1.8V)", F6 AVDD (power) "Analog Supply, (1.8V)", F8 DVDD (power) "Digital Supply (1.8V)", F9 DRVDD (power) "Driver Digital Supply (1.8V or 3.3V)", F12 DVDD (power) "Digital Supply (1.8V)", F17 DVDD (power) "Digital Supply (1.8V)", H3 DVDD (power) "Digital Supply (1.8V)", H5 DVDD (power) "Digital Supply (1.8V)", H14 DRVDD (power) "Driver Digital Supply (1.8V or 3.3V)", H15 DRVDD (power) "Driver Digital Supply (1.8V or 3.3V)", J6 AVDD (power) "Analog Supply, (1.8V)", J14 DVDD (power) "Digital Supply (1.8V)", K17 DRVDD (power) "Driver Digital Supply (1.8V or 3.3V)", L14 DRVDD (power) "Driver Digital Supply (1.8V or 3.3V)", L15 DVDD (power) "Digital Supply (1.8V)", M3 DVDD (power) "Digital Supply (1.8V)", M5 DVDD (power) "Digital Supply (1.8V)", N3 AVDD (power) "Analog Supply, (1.8V)", N14 DRVDD (power) "Driver Digital Supply (1.8V or 3.3V)", P3 AVDD (power) "Analog Supply, (1.8V)", P5 AVDD (power) "Analog Supply, (1.8V)", P6 AVDD (power) "Analog Supply, (1.8V)", P7 AVDD (power) "Analog Supply, (1.8V)", P12 DRVDD (power) "Driver Digital Supply (1.8V or 3.3V)", P13 DVDD (power) "Digital Supply (1.8V)", P14 DRVDD (power) "Driver Digital Supply (1.8V or 3.3V)", P15 DRVDD (power) "Driver Digital Supply (1.8V or 3.3V)", P17 DVDD (power) "Digital Supply (1.8V)", R6 AVDD (power) "Analog Supply, (1.8V)", R8 DVDD (power) "Digital Supply (1.8V)", R10 DRVDD (power) "Driver Digital Supply (1.8V or 3.3V)", R12 DRVDD (power) "Driver Digital Supply (1.8V or 3.3V)", R13 DVDD (power) "Digital Supply (1.8V)", R14 DRVDD (power) "Driver Digital Supply (1.8V or 3.3V)", T3 DVDD (power) "Digital Supply (1.8V)", U3 DVDD (power) "Digital Supply (1.8V)", U4 DVDD (power) "Digital Supply (1.8V)", U8 DVDD (power) "Digital Supply (1.8V)", V3 DVDD (power) "Digital Supply (1.8V)", V6 AVDD (power) "Analog Supply, (1.8V)", W6 AVDD (power) "Analog Supply, (1.8V)"
part K pins: A2 DGND (power) "Digital Ground", A3 AGND (power) "Analog Ground", A5 AGND (power) "Analog Ground", A7 DGND (power) "Digital Ground", B1 DGND (power) "Digital Ground", B2 DGND (power) "Digital Ground", B3 DGND (power) "Digital Ground", B5 AGND (power) "Analog Ground", B7 DGND (power) "Digital Ground", B9 AGND (power) "Analog Ground", B13 DGND (power) "Digital Ground", C1 AGND (power) "Analog Ground", C5 AGND (power) "Analog Ground", C9 AGND (power) "Analog Ground", C13 DGND (power) "Digital Ground", E3 AGND (power) "Analog Ground", E7 AGND (power) "Analog Ground", E13 DRGND (power) "Driver Digital Ground", F7 AGND (power) "Analog Ground", F10 DRGND (power) "Driver Digital Ground", F11 DRGND (power) "Driver Digital Ground", F13 DRGND (power) "Driver Digital Ground", F14 DRGND (power) "Driver Digital Ground", F15 DRGND (power) "Driver Digital Ground", G1 AGND (power) "Analog Ground", G5 AGND (power) "Analog Ground", G6 AGND (power) "Analog Ground", G14 DRGND (power) "Driver Digital Ground", G15 DGND (power) "Digital Ground", G17 DRGND (power) "Driver Digital Ground", H1 DGND (power) "Digital Ground", H2 DGND (power) "Digital Ground", H6 AGND (power) "Analog Ground", H17 DGND (power) "Digital Ground", J1 AGND (power) "Analog Ground", J2 AGND (power) "Analog Ground", L17 DGND (power) "Digital Ground", M2 AGND (power) "Analog Ground", M6 DGND (power) "Digital Ground", M14 DRGND (power) "Driver Digital Ground", M15 DRGND (power) "Driver Digital Ground", M17 DRGND (power) "Driver Digital Ground", N1 DGND (power) "Digital Ground", N5 AGND (power) "Analog Ground", N6 AGND (power) "Analog Ground", N15 DGND (power) "Digital Ground", N17 DRGND (power) "Driver Digital Ground", P8 AGND (power) "Analog Ground", R1 AGND (power) "Analog Ground", R2 AGND (power) "Analog Ground", R3 AGND (power) "Analog Ground", R7 AGND (power) "Analog Ground", U1 AGND (power) "Analog Ground", U2 DGND (power) "Digital Ground", U5 AGND (power) "Analog Ground", U10 AGND (power) "Analog Ground", U11 DRGND (power) "Driver Digital Ground", U12 DRGND (power) "Driver Digital Ground", U13 DGND (power) "Digital Ground", U14 DGND (power) "Digital Ground", U15 DRGND (power) "Driver Digital Ground", U16 DRGND (power) "Driver Digital Ground", V1 DGND (power) "Digital Ground", V2 DGND (power) "Digital Ground", V5 AGND (power) "Analog Ground", V8 DGND (power) "Digital Ground", V10 AGND (power) "Analog Ground", W2 DGND (power) "Digital Ground", W3 AGND (power) "Analog Ground", W7 AGND (power) "Analog Ground", W8 DGND (power) "Digital Ground"